# EAGLE library part 1-84981-0 (library PinHD1X2)
CONN FFC FPC TOP 10POS 1MM R/A Manufacturer's datasheet <https://www.te.com/commerce/DocumentDelivery/DDEController?Action=srchrtrv&DocNm=84981&DocType=Customer+Drawing&DocLang=English>
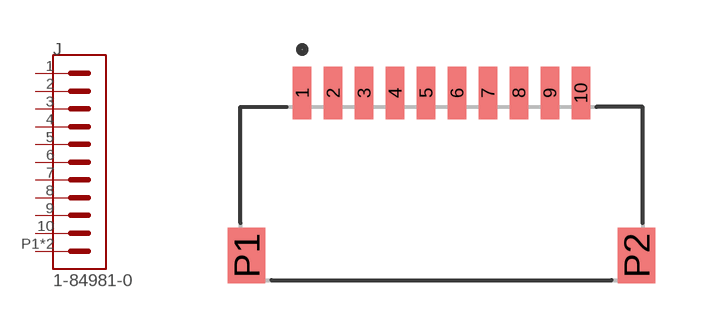
[diagram p21: symbol with the pads of 1-84981-0; footprint 1-84981-0]

Designator prefix J

## 1-84981-0 (CATEGORY: FFC & FPC Connectors; CREATED_BY: PCBLayout.com; DESCRIPTION: FFC & FPC Connectors 10P 1.00MM R/A SMD; DIGIKEY_PART_NUMBER: A100308TR-ND; MANUFACTURER: TE Connectivity AMP Connectors; MPN: 1-84981-0; ROHS_COMPIANT: COMPIANT; SERIES: FFC; SUB_CATEGORY: Board Mount; TYPE: 10 Position Right Angle)  [1-84981-0]
1  1  pas
2  2  pas
3  3  pas
4  4  pas
5  5  pas
6  6  pas
7  7  pas
8  8  pas
9  9  pas
10  10  pas
P1  SHIELD  pwr
P2  SHIELD  pwr

## Footprint 1-84981-0 (pad centres in mm)
smd 0.6 x 1.7: 1 -4.5,0; 2 -3.5,0; 3 -2.5,0; 4 -1.5,0; 5 -0.5,0; 6 0.5,0; 7 1.5,0; 8 2.5,0; 9 3.5,0; 10 4.5,0
smd 1.2 x 1.8: P1 -6.3,-5.25; P2 6.3,-5.25